# Altium schematic symbol library DVIULC6-4SC6.SchLib: 1 symbol
Pins are listed as number, name and electrical type; pins without a type are passive.

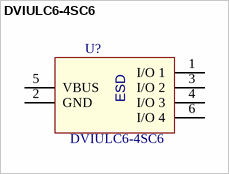
[diagram p0: symbol DVIULC6-4SC6]

## DVIULC6-4SC6
designator U?
Ultralow capacitance ESD protection; value: DVIULC6-4SC6
pins: 1 I/O 1, 2 GND (power), 3 I/O 2, 4 I/O 3, 5 VBUS, 6 I/O 4
text: ESD